# EAGLE library part BD50GC0WEFJ-E2 (library BD50GC0WEFJ-E2)
LDO Regulator Pos 5V 1A 8-Pin HTSOP-J EP T/R
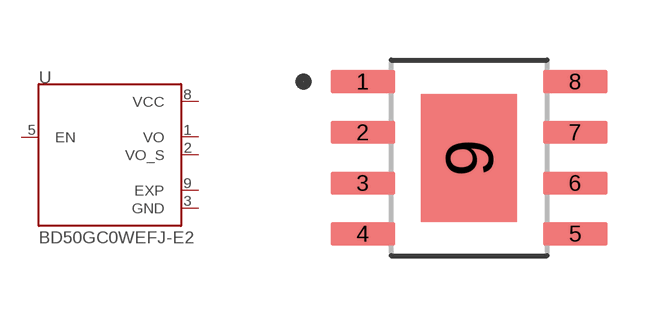
[diagram p0: symbol with the pads of SOIC127P600X100-9N; footprint SOIC127P600X100-9N]

Designator prefix U

## BD50GC0WEFJ-E2 (Availability: Unavailable; Description: LDO Regulator Pos 5V 1A 8-Pin HTSOP-J EP T/R; MF: Rohm; MP: BD50GC0WEFJ-E2; Package: SOIC-8 Rohm; Price: None)  [SOIC127P600X100-9N]
1  VO  out
2  VO_S  out
3  GND  pwr
5  EN  in
8  VCC  pwr
9  EXP  pwr

## Footprint SOIC127P600X100-9N (pad centres in mm)
smd 1.61 x 0.58: 1 -2.655,1.905; 2 -2.655,0.635; 3 -2.655,-0.635; 4 -2.655,-1.905; 5 2.655,-1.905; 6 2.655,-0.635; 7 2.655,0.635; 8 2.655,1.905
smd 2.4 x 3.2: 9 0,0